# Altium footprint library SR PCB Library V01.PcbLib: 402 footprints (part 10 of 26)
Each footprint in its own frame and in the unit in brackets; x right, y up, seen from the top. Pads: shape width x height; smd on the part's side, far side on the other; paste and mask are expansions set on the pad; w line width, h text height; cw(c..) or ccw(c..) is an arc to the next point about the centre after c.
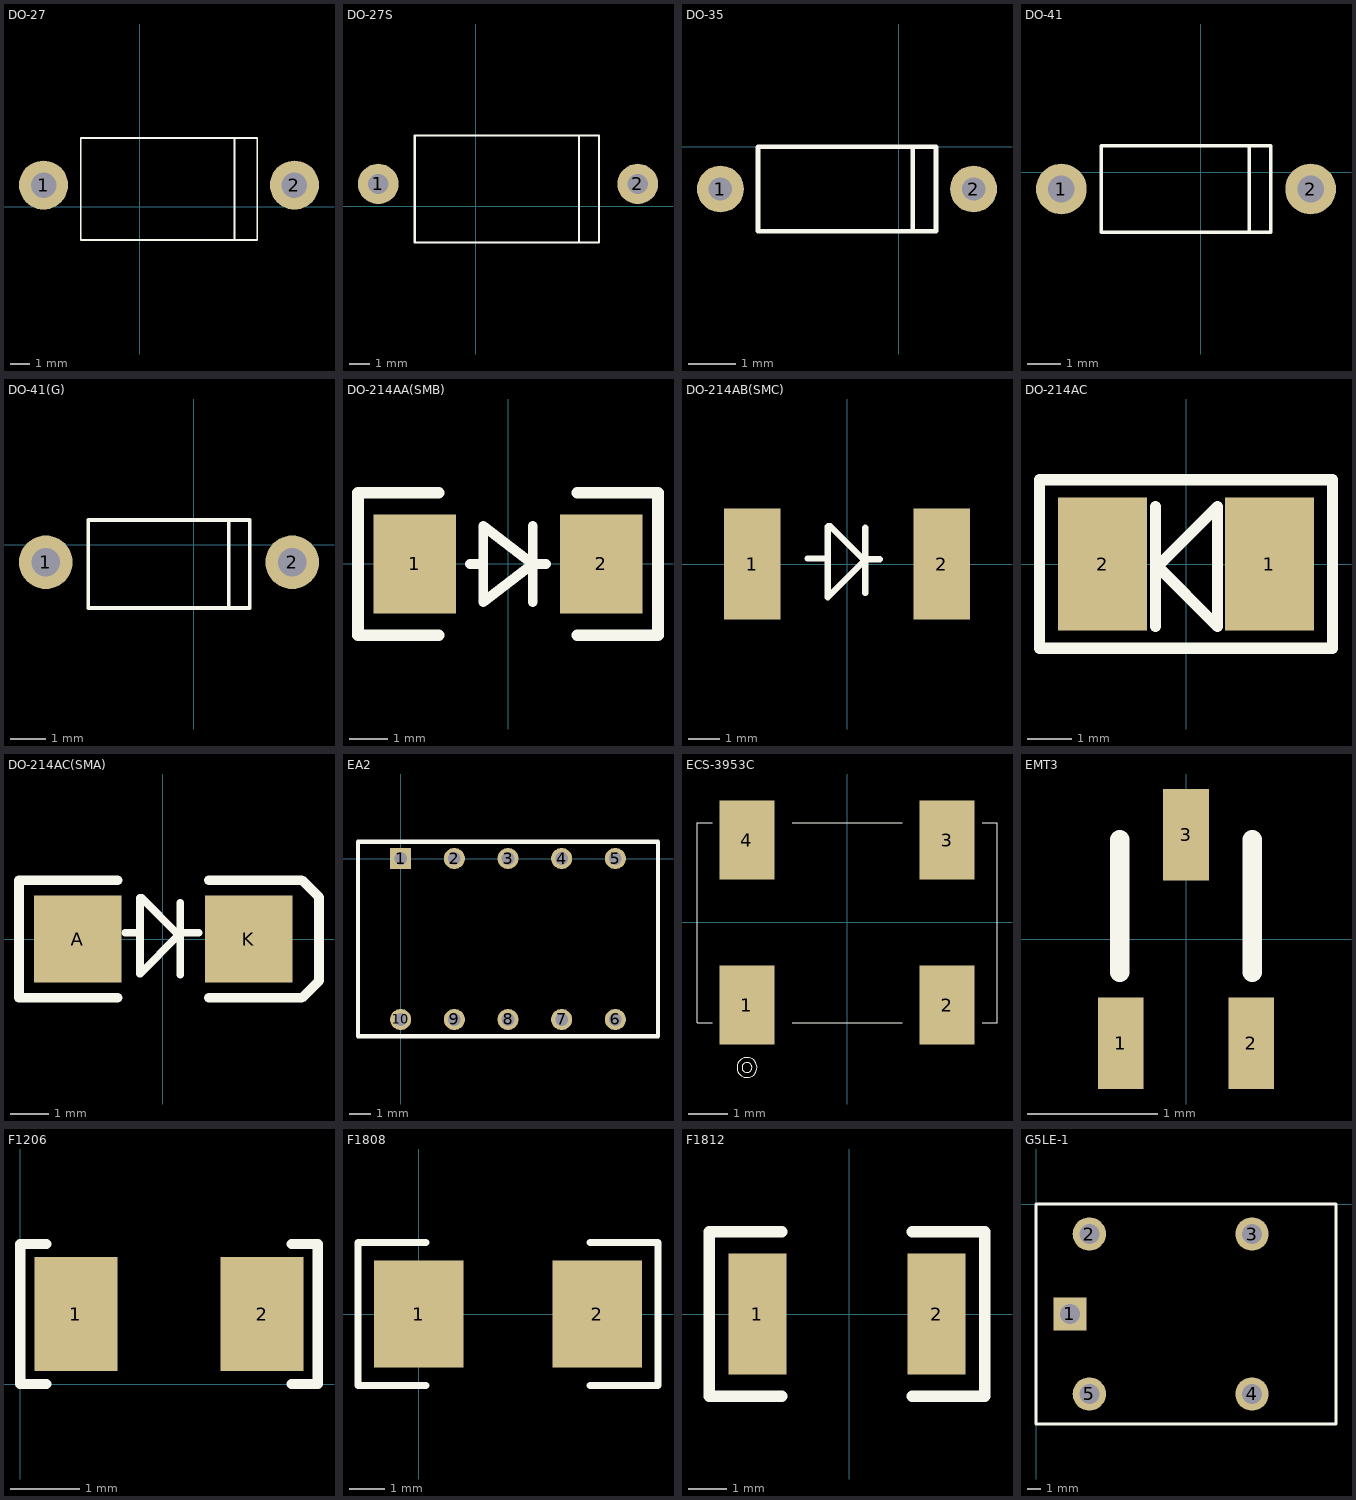
[diagram p9: the footprints below, top view; thin cyan lines are the x and y axes]

## DO-27 [mm]
pads (2):
  round 2.5 hole 1.3: 1(-4.9,1.1) 2(7.9,1.1)
Top Overlay:
  lines w0.1: 4.85,-1.7 4.85,3.5 ; -3,-1.7 -3,3.5 6,3.5 6,-1.7 -3,-1.7

## DO-27S [mm]
pads (2):
  round 2 hole 1: 1(-4.8,1.1) 2(8,1.1)
Top Overlay:
  lines w0.1: 5.1,-1.75 5.1,3.45 ; -3,-1.8 -3,3.5 6.1,3.5 6.1,-1.8 -3,-1.8

## DO-35 [mm]
pads (2):
  round 1 hole 0.5: 1(-3.8,-0.9) 2(1.6,-0.9)
Top Overlay:
  lines w0.1: 0.3,-1.8 0.3,0 ; -3,-1.8 -3,0 0.8,0 0.8,-1.8 -3,-1.8

## DO-41 [mm]
pads (2):
  round 1.524 hole 0.8: 1(-4.2,-0.5) 2(3.3,-0.5)
Top Overlay:
  lines w0.1: 1.45,-1.8 1.45,0.8 ; -3,-1.8 -3,0.8 2.1,0.8 2.1,-1.8 -3,-1.8

## DO-41(G) [mm]
pads (2):
  round 1.524 hole 0.8: 1(-4.2,-0.5) 2(2.8,-0.5)
Top Overlay:
  lines w0.1: 1,-1.8 1,0.7 ; -3,-1.8 -3,0.7 1.6,0.7 1.6,-1.8 -3,-1.8

## DO-214AA(SMB) [mm] "稳压管"
pads (2):
  rect 2.16x2.6 smd: 1(-2.45,0) 2(2.45,0)
Top Overlay:
  lines w0.254: -0.996,0 -0.65,0 ; 0.65,-1 0.65,1 ; 0.996,0 0.65,0 ; 0.65,0 -0.65,-1 -0.65,1 0.65,0
  lines w0.305: -1.815,-1.87 -3.937,-1.87 -3.937,1.87 -1.815,1.87 ; 1.815,-1.87 3.937,-1.87 3.937,1.87 1.815,1.87

## DO-214AB(SMC) [mm]
pads (2):
  rect 1.8x3.5 smd: 1(-3,0) 2(3,0)
Top Overlay:
  lines w0.2: -1.24,0.173 -0.625,0.173 ; 0.583,-0.916 0.583,1.152 ; 0.583,0.152 1.036,0.152 ; -0.611,-1.048 0.527,0.09 0.527,0.138 -0.535,1.2 -0.59,1.2 -0.611,1.18 -0.611,-1.048

## DO-214AC [mm] "DO-214AC"
pads (2):
  rect 2x3 smd: 1(1.88,0) 2(-1.88,0)
Top Overlay:
  lines w0.2: -0.689,-0.105 0.711,1.295 ; -0.148,0.436 0.111,0.695
  lines w0.203: -0.689,-1.405 -0.689,1.295
  lines w0.254: -0.689,-1.405 -0.689,1.295 ; -0.689,-0.105 0.711,1.295 ; 0.711,-1.405 0.711,1.295 ; 0.711,-1.405 -0.689,-0.005 0.711,-1.405 ; 0.711,-1.405 0.711,1.295 ; -3.302,-1.9 3.302,-1.9 3.302,1.9 -3.302,1.9 -3.302,-1.9

## DO-214AC(SMA) [mm] "SMA"
height 1.75
pads (2):
  rect 2.3x2.3 smd: A(-2.24,0.003) K(2.26,0.003)
Top Overlay:
  lines w0.2: -0.989,0.169 -0.61,0.169 ; -0.603,1.082 -0.603,-0.909 0.394,0.089 0.394,0.132 -0.556,1.082 ; 0.453,-0.938 0.453,0.962 ; 0.453,0.169 0.948,0.169
  lines w0.254: -1.19,-1.547 -3.79,-1.547 -3.79,1.553 -1.19,1.553 ; 1.21,-1.547 3.66,-1.547 4.11,-1.097 4.11,1.103 3.66,1.553 1.21,1.553

## EA2 [mm]
pads (10):
  rect 1x1 hole 0.6: 1(0,0)
  round 1 hole 0.6: 2(2.54,0) 3(5.08,0) 4(7.62,0) 5(10.16,0) 6(10.16,-7.62) 7(7.62,-7.62) 8(5.08,-7.62) 9(2.54,-7.62) 10(0,-7.62)
Top Overlay:
  lines w0.2: -2.02,-8.41 -2.02,0.79 12.18,0.79 12.18,-8.41 -2.02,-8.41

## ECS-3953C [mil]
pads (4):
  rect 55x79 smd: 1(-100,-82.5) 2(100,-82.5) 3(100,82.5) 4(-100,82.5)
Top Overlay:
  circle w1: c-100,-145 r5
  circle w1: c-100,-145 r10
  lines w1: -135,-100 -150,-100 -150,100 -135,100 ; -55,-100 55,-100 ; -55,100 55,100 ; 135,-100 150,-100 150,100 135,100

## EMT3 [mm]
pads (3):
  rect 0.35x0.7 smd: 1(-0.5,-0.8) 2(0.5,-0.8) 3(0,0.8)
Top Overlay:
  lines w0.15: -0.508,-0.254 -0.508,0.762 ; 0.508,-0.254 0.508,0.762

## F1206 [mm]
pads (2):
  rect 1.2x1.65 smd: 1(0.809,1.016) 2(3.509,1.016)
Top Overlay:
  lines w0.15: 0.381,0 0,0 0,2.032 0.381,2.032 ; 3.937,0 4.318,0 4.318,2.032 3.937,2.032

## F1808 [mm]
pads (2):
  rect 2.5x3 smd: 1(0,0) 2(5,0)
Top Overlay:
  lines w0.2: 0.2,-2 -1.7,-2 -1.7,2 0.2,2 ; 4.8,-2 6.7,-2 6.7,2 4.8,2

## F1812 [mil]
pads (2):
  rect 60x125 smd: 1(-95,0) 2(90,0)
Top Overlay:
  lines w12: -70,-85 -145,-85 -145,85 -70,85 ; 65,-85 140,-85 140,85 65,85

## G5LE-1 [mm]
pads (5):
  rect 2.5x2.5 hole 1.5: 1(2.55,-8.25)
  round 2.5 hole 1.5: 2(4,-2.25) 3(16.2,-2.25) 4(16.2,-14.25) 5(4,-14.25)
Top Overlay:
  lines w0.2: 0,-16.5 0,0 22.5,0 22.5,-16.5 0,-16.5